# Altium footprint library Dashboard.PcbLib: 8 footprints
Each footprint in its own frame and in the unit in brackets; x right, y up, seen from the top. Pads: shape width x height; smd on the part's side, far side on the other; paste and mask are expansions set on the pad; w line width, h text height; cw(c..) or ccw(c..) is an arc to the next point about the centre after c.
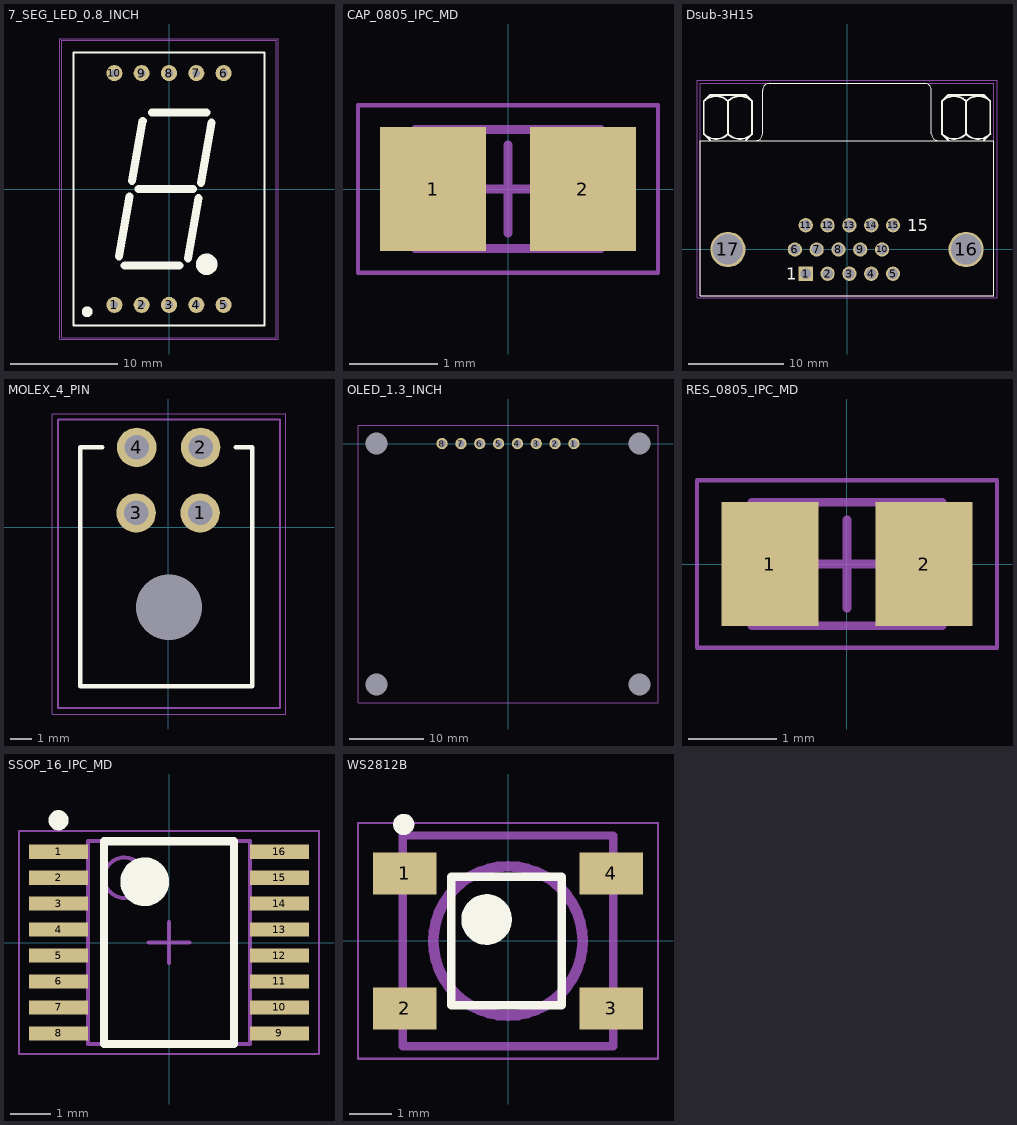
[diagram p0: the footprints below, top view; thin cyan lines are the x and y axes]

## 7_SEG_LED_0.8_INCH [mm] "OPTO PLUS LED CORP. OPD-S8023LB-BW"
height 10
pads (10):
  round 1.5 hole 0.7: 1(-5.08,-10.8) 2(-2.54,-10.8) 3(0,-10.8) 4(2.54,-10.8) 5(5.08,-10.8) 6(5.08,10.8) 7(2.54,10.8) 8(0,10.8) 9(-2.54,10.8) 10(-5.08,10.8)
Top Overlay:
  circle w1: c3.511,-7.01 r0.5
  circle w0.5: c-7.62,-11.43 r0.25
  lines w0.2: -8.89,-12.7 -8.89,12.7 8.89,12.7 8.89,-12.7 -8.89,-12.7
  lines w0.762: -4.661,-6.266 -3.681,-0.686 ; -4.122,-7.112 0.958,-7.112 ; -3.432,0.762 -2.452,6.342 ; -2.852,0 2.228,0 ; -1.582,7.112 3.498,7.112 ; 1.761,-6.442 2.741,-0.862 ; 2.99,0.586 3.97,6.166
Mechanical 1:
  lines w0.1: -10,-13.85 10,-13.85 10,13.85 -10,13.85 -10,-13.85
Mechanical 15:
  lines w0.05: -10.16,-13.97 10.16,-13.97 10.16,13.97 -10.16,13.97 -10.16,-13.97
3D body: height 12.5, standoff 2.5, extent -10,-13.85 10,13.85

## CAP_0805_IPC_MD [mm] "Chip Capacitor, 2-Leads, 0805, SAMSUNG, IPC Medium Density"
height 1.35
pads (2):
  rect 1.2x1.4 smd: 1(-0.85,0) 2(0.85,0)
Mechanical 13:
  lines w0.1: -1.05,-0.675 1.05,-0.675 1.05,0.675 -1.05,0.675 -1.05,-0.675
Mechanical 15:
  lines w0.05: -1.7,-0.95 -1.7,0.95 1.7,0.95 1.7,-0.95 -1.7,-0.95
  lines w0.1: -0.5,0 0.5,0 ; 0,-0.5 0,0.5
3D body "CAP_0805_IPC_MD.step": height 1.35, standoff 0, extent -1.05,-0.675 1.05,0.675

## Dsub-3H15 [mm] "Dsub 15 pins, right angled"
height 12.5
pads (17):
  rect 1.5x1.5 hole 1.1: 1(-4.33,-2.54)
  round 1.5 hole 1.1: 2(-2.04,-2.54) 3(0.25,-2.54) 4(2.54,-2.54) 5(4.83,-2.54) 6(-5.475,0) 7(-3.185,0) 8(-0.895,0) 9(1.395,0) 10(3.685,0) 11(-4.33,2.54) 12(-2.04,2.54) 13(0.25,2.54) 14(2.54,2.54) 15(4.83,2.54)
  round 3.7 hole 3.2: 16(12.5,0) 17(-12.5,0)
Top Overlay:
  lines w0.127: -9.56,11.435 ccw(c-9.56,12.13) -8.865,12.13 -8.865,16.73 ; -8.86,16.735 cw(c-8.165,16.735) -8.165,17.43 8.165,17.43 cw(c8.165,16.735) 8.86,16.735 ; 8.865,16.73 8.865,12.13 ccw(c9.56,12.13) 9.56,11.435 ; -15.4,-4.87 15.4,-4.87 15.4,11.43 -15.4,11.43 -15.4,-4.87
  lines w0.2: -14.364,11.451 -15.038,12.125 -15.038,15.58 -14.403,16.215 -10.593,16.215 -9.958,15.58 ; -12.498,12.125 -12.498,15.565 ; -10.629,11.454 -9.958,12.125 -9.958,15.565 ; -9.958,14.301 -9.958,14.513 ; 10.636,11.451 9.962,12.125 9.962,15.58 10.597,16.215 14.407,16.215 15.042,15.58 ; 12.502,12.125 12.502,15.565 ; 14.371,11.454 15.042,12.125 15.042,15.565 ; 15.042,14.301 15.042,14.513
  lines w0.203: -15.04,12.122 ccw(c-13.768,13.395) -12.496,12.122 ; -15.038,15.565 cw(c-13.766,14.293) -12.493,15.565 ; -12.502,15.565 cw(c-11.23,14.293) -9.958,15.565 ; -12.5,12.122 ccw(c-11.228,13.395) -9.956,12.122 ; 9.96,12.122 ccw(c11.232,13.395) 12.504,12.122 ; 9.962,15.565 cw(c11.234,14.293) 12.507,15.565 ; 12.498,15.565 cw(c13.77,14.293) 15.042,15.565 ; 12.5,12.122 ccw(c13.772,13.395) 15.044,12.122
  text "1" at -6.36,-3.175 h1.27
  text "15" at 6.34,1.905 h1.27
Mechanical 13:
  lines w0.127: -15.4,-4.87 15.4,-4.87 15.4,17.43 -15.4,17.43 -15.4,-4.87
Mechanical 15:
  lines w0.05: -15.748,-5.08 -15.748,17.78 15.748,17.78 15.748,-5.08 -15.748,-5.08
3D body "Download_STP_618015330923 (2).stp": height 12.51, standoff -3.79, extent -15.4,-4.862 15.4,17.438

## MOLEX_4_PIN [mm]
height 7.75
pads (5):
  round 1.8 hole 1.12: 1(1.45,0.66) 2(1.475,3.66) 3(-1.475,0.66) 4(-1.45,3.66)
  round 0 hole 3: ""(0.025,-3.66)
Top Overlay:
  lines w0.2: -3.023,3.66 -4.039,3.66 -4.039,-7.262 3.835,-7.262 3.835,3.66 3.073,3.66
Mechanical 1:
  lines w0.1: -5.05,-8.26 -5.05,4.93 5.1,4.93 5.1,-8.26 -5.05,-8.26
Mechanical 15:
  lines w0.05: -5.309,-8.532 5.359,-8.532 5.359,5.184 -5.309,5.184 -5.309,-8.532
3D body "430450400.stp": height 8.77, standoff -3.17, extent -5.05,-8.26 5.1,3.98

## OLED_1.3_INCH [mm]
pads (12):
  round 1.524 hole 1: 1(8.89,0) 2(6.35,0) 3(3.81,0) 4(1.27,0) 5(-1.27,0) 6(-3.81,0) 7(-6.35,0) 8(-8.89,0)
  round 0 hole 3: ""(-17.75,-32.5) ""(-17.75,0) ""(17.75,-32.5) ""(17.75,0)
Mechanical 1:
  lines w0.1: -20.25,-35 -20.25,2.5 20.25,2.5 20.25,-35 -20.25,-35
3D body: height 12.5, standoff 7.5, extent -20.25,-35 20.25,2.5

## RES_0805_IPC_MD [mm] "Chip Resistor, 2-Leads, 0805, Royal Ohm, IPC Medium Density"
height 0.65
pads (2):
  rect 1.1x1.4 smd: 1(-0.875,0) 2(0.875,0)
Mechanical 13:
  lines w0.1: -1.075,-0.7 -1.075,0.7 1.075,0.7 1.075,-0.7 -1.075,-0.7
Mechanical 15:
  lines w0.05: -1.7,-0.95 1.7,-0.95 1.7,0.95 -1.7,0.95 -1.7,-0.95
  lines w0.1: -0.5,0 0.5,0 ; 0,-0.5 0,0.5
3D body "RES_0805_IPC_MD.step": height 0.65, standoff 0, extent -1.075,-0.7 1.075,0.7

## SSOP_16_IPC_MD [mm] "SSOP, 16-Leads, Pitch 0,64mm, IPC Medium Density"
height 1.75
pads (16):
  rect 1.45x0.35 smd mask+0.145: 1(-2.725,2.24) 2(-2.725,1.6) 3(-2.725,0.96) 4(-2.725,0.32) 5(-2.725,-0.32) 6(-2.725,-0.96) 7(-2.725,-1.6) 8(-2.725,-2.24) 9(2.725,-2.24) 10(2.725,-1.6) 11(2.725,-0.96) 12(2.725,-0.32) 13(2.725,0.32) 14(2.725,0.96) 15(2.725,1.6) 16(2.725,2.24)
Top Overlay:
  circle w0.25: c-2.725,3.015 r0.125
  circle w0.6: c-0.6,1.5 r0.3
  lines w0.2: -1.6,-2.5 -1.6,2.5 1.6,2.5 1.6,-2.5 -1.6,-2.5
Mechanical 13:
  circle w0.1: c-1.1,1.6 r0.5
  lines w0.1: -2,-2.5 -2,2.5 2,2.5 2,-2.5 -2,-2.5
Mechanical 15:
  lines w0.05: -3.7,-2.75 -3.7,2.75 3.7,2.75 3.7,-2.75 -3.7,-2.75
  lines w0.1: -0.5,0 0.5,0 ; 0,-0.5 0,0.5
3D body "SSOP16.step": height 1.75, standoff 0, extent -2.997,-2.5 2.997,2.5

## WS2812B [mm]
pads (4):
  rect 1.5x1 smd: 1(-2.45,1.6) 2(-2.45,-1.6) 3(2.45,-1.6) 4(2.45,1.6)
Top Overlay:
  circle w0.25: c-2.471,2.761 r0.125
  circle w0.6: c-0.508,0.508 r0.3
  lines w0.2: -1.346,-1.524 1.27,-1.524 1.27,1.524 -1.346,1.524 -1.346,-1.524
Mechanical 1:
  circle w0.254: c0,0 r1.769
  lines w0.2: -2.5,-2.5 2.5,-2.5 2.5,2.5 -2.5,2.5 -2.5,-2.5
Mechanical 15:
  lines w0.05: -3.556,-2.794 3.556,-2.794 3.556,2.794 -3.556,2.794 -3.556,-2.794
3D body "WS2812_RGB_LED_updated.stp": height 1.7, standoff 0, extent -2.675,-2.475 2.675,2.475